# Altium schematic symbol library TXS0104EPWR.SchLib: 1 symbol
Pins are listed as number, name and electrical type; pins without a type are passive.

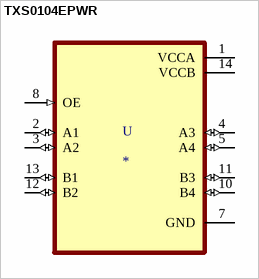
[diagram p0: symbol TXS0104EPWR]

## TXS0104EPWR
designator U
4-Bit Bidirectional Voltage-Level Shifter for Open-Drain and Push-Pull Applications 14-TSSOP -40 to 85; MP: TXS0104EPWR; MF: Texas Instruments; Availability: Unavailable; Price: None; Package: TSSOP-14 Texas Instruments; SnapEDA_Link: https://www.snapeda.com/parts/TXS0104EPWR/Texas%20Instruments/view-part/134341/?ref=snap; Value: *; Texas_Instruments-Purchase-URL: https://snapeda.com/shop?store=Texas+Instruments&id=134341
footprint SOP65P640X120-14N
pins: 1 VCCA (power), 2 A1 (io), 3 A2 (io), 4 A3 (io), 5 A4 (io), 7 GND (power), 8 OE (in), 10 B4 (io), 11 B3 (io), 12 B2 (io), 13 B1 (io), 14 VCCB (power)